# EAGLE library part EM34 (library radiotubes)
Magic Eye 2 ranges
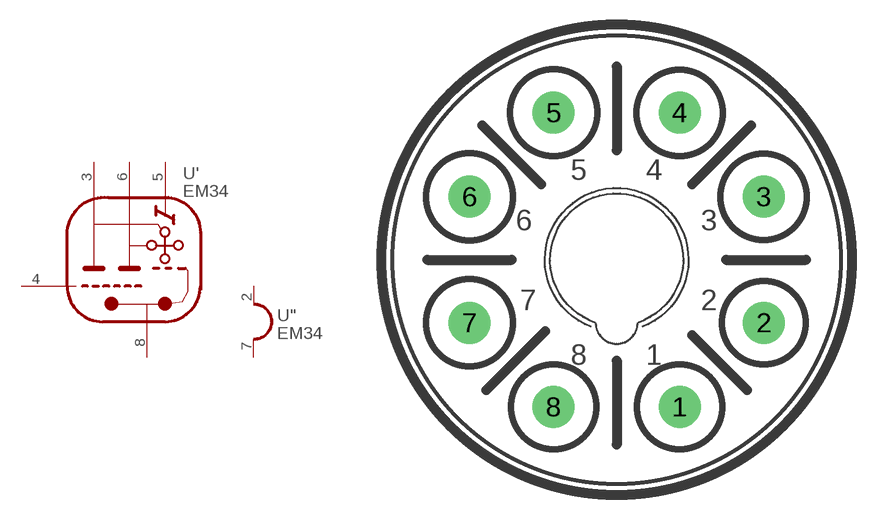
[diagram p143: symbol with the pads of OKTAL; footprint OKTAL]

Designator prefix -; gates '=ABSTIMM2 "=HEATER_1

## EM34  [OKTAL]
2  ":H1  pas
3  ':A1  pas
4  ':GT  pas
5  ':L  pas
6  ':A2  pas
7  ":H2  pas
8  ':K_G1  pas

## Footprint OKTAL (pad centres in mm)
drill 1.27 pad 2.54: 1 3.81,-8.89; 2 8.89,-3.81; 3 8.89,3.81; 4 3.81,8.89; 5 -3.81,8.89; 6 -8.89,3.81; 7 -8.89,-3.81; 8 -3.81,-8.89